# Altium footprint library 16-Pcblib_Amp.PcbLib: 2 footprints
Each footprint in its own frame and in the unit in brackets; x right, y up, seen from the top. Pads: shape width x height; smd on the part's side, far side on the other; paste and mask are expansions set on the pad; w line width, h text height; cw(c..) or ccw(c..) is an arc to the next point about the centre after c.
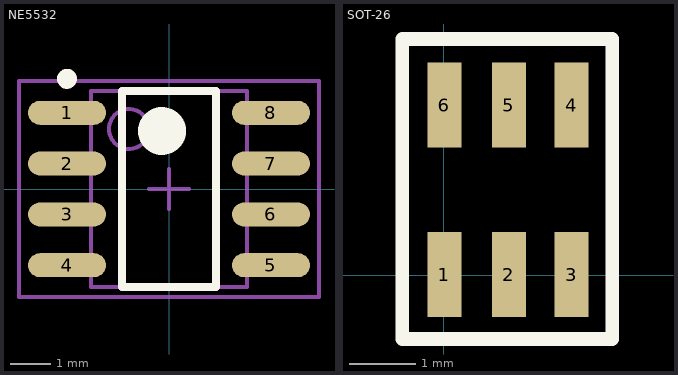
[diagram p0: the footprints below, top view; thin cyan lines are the x and y axes]

## NE5532 [mm]
height 1.75
pads (8):
  oval 1.95x0.6 smd: 1(-2.55,1.905) 2(-2.55,0.635) 3(-2.55,-0.635) 4(-2.55,-1.905) 5(2.55,-1.905) 6(2.55,-0.635) 7(2.55,0.635) 8(2.55,1.905)
Top Overlay:
  circle w0.25: c-2.55,2.755 r0.125
  circle w0.6: c-0.175,1.45 r0.3
  lines w0.2: -1.175,-2.45 -1.175,2.45 1.175,2.45 1.175,-2.45 -1.175,-2.45
Mechanical 13:
  circle w0.1: c-1,1.5 r0.5
  lines w0.1: -1.95,-2.45 -1.95,2.45 1.95,2.45 1.95,-2.45 -1.95,-2.45
Mechanical 15:
  lines w0.1: -0.5,0 0.5,0 ; 0,-0.5 0,0.5 ; -3.75,-2.7 -3.75,2.7 3.75,2.7 3.75,-2.7 -3.75,-2.7
3D body: height 1.75, standoff 0.2, extent -1.95,-2.45 1.95,2.45

## SOT-26 [mil]
pads (6):
  rect 20x50 smd: 1(0.41,0.41) 2(38.41,0.41) 3(75.41,0.41) 4(75.41,100.41) 5(38.41,100.41) 6(0.41,100.41)
Top Overlay:
  lines w8: -24.59,-37.59 99.41,-37.59 99.41,139.41 -24.59,139.41 -24.59,-37.59